# Altium footprint library PCBLIB 485.PcbLib: 6 footprints
Each footprint in its own frame and in the unit in brackets; x right, y up, seen from the top. Pads: shape width x height; smd on the part's side, far side on the other; paste and mask are expansions set on the pad; w line width, h text height; cw(c..) or ccw(c..) is an arc to the next point about the centre after c.
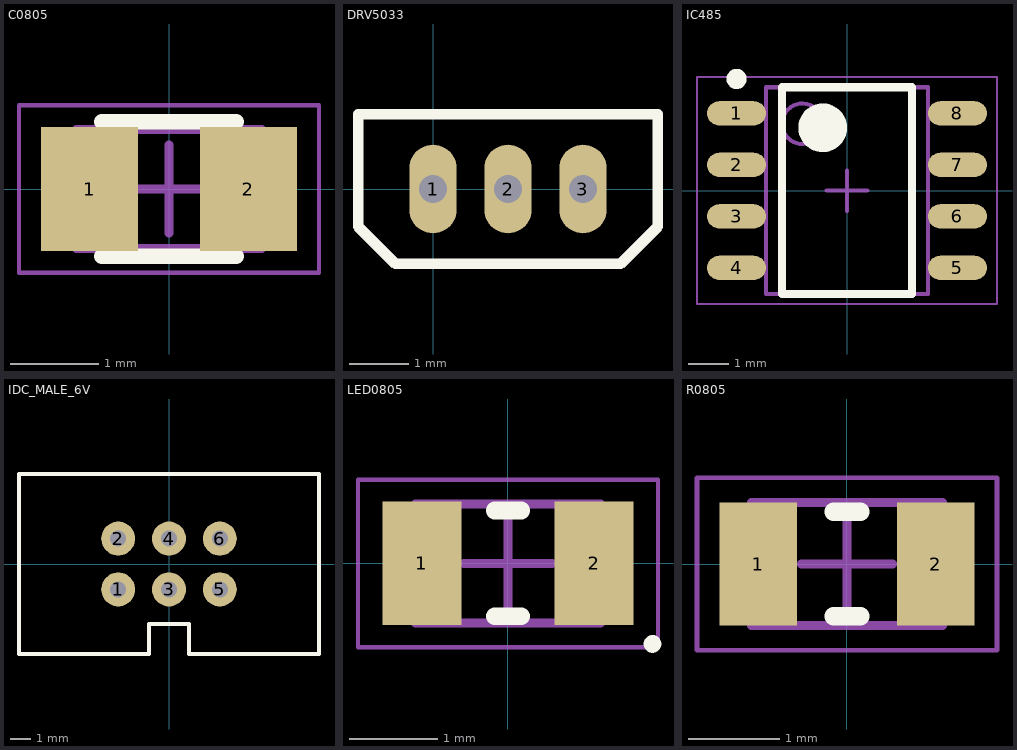
[diagram p0: the footprints below, top view; thin cyan lines are the x and y axes]

## C0805 [mm] "Chip Capacitor, 2-Leads, Body 2.00x1.25mm, IPC Medium Density"
height 0.85
pads (2):
  rect 1.1x1.4 smd: 1(-0.9,0) 2(0.9,0)
Top Overlay:
  lines w0.178: -0.762,-0.762 0.762,-0.762 ; -0.762,0.762 0.762,0.762
Mechanical 13:
  lines w0.1: -1.05,-0.675 1.05,-0.675 1.05,0.675 -1.05,0.675 -1.05,-0.675
Mechanical 15:
  lines w0.05: -1.7,-0.95 1.7,-0.95 1.7,0.95 -1.7,0.95 -1.7,-0.95
  lines w0.1: -0.5,0 0.5,0 ; 0,-0.5 0,0.5
3D body: height 0.85, standoff 0, extent 0.65,-0.675 1.05,0.675
3D body: height 0.85, standoff 0, extent -1.05,-0.675 -0.65,0.675
3D body: height 0.85, standoff 0, extent -0.65,-0.675 0.65,0.675

## DRV5033 [mm]
pads (3):
  oval 0.8x1.5 hole 0.48: 1(0,0) 2(1.27,0) 3(2.54,0)
Top Overlay:
  lines w0.178: -1.27,-0.635 -1.27,1.27 3.81,1.27 3.81,-0.635 3.175,-1.27 -0.635,-1.27 -1.27,-0.635
  text "." at -1.016,-0.738 h2
3D body "SENSOR HALL.STEP": height 2, standoff -1.05, extent -1.073,-9.996 3.613,0.254

## IC485 [mm] "SOIC, 8-Leads, Body 4.90x3.90mm, Pitch 1.27mm, IPC Medium Density"
height 1.75
pads (8):
  oval 1.45x0.6 smd: 1(-2.725,1.905) 2(-2.725,0.635) 3(-2.725,-0.635) 4(-2.725,-1.905) 5(2.725,-1.905) 6(2.725,-0.635) 7(2.725,0.635) 8(2.725,1.905)
Top Overlay:
  circle w0.6: c-0.6,1.55 r0.3
  circle w0.25: c-2.725,2.755 r0.125
  lines w0.2: -1.6,-2.55 1.6,-2.55 1.6,2.55 -1.6,2.55 -1.6,-2.55
Mechanical 13:
  circle w0.1: c-1.1,1.65 r0.5
  lines w0.1: -2,-2.55 2,-2.55 2,2.55 -2,2.55 -2,-2.55
Mechanical 15:
  lines w0.05: -3.7,-2.8 3.7,-2.8 3.7,2.8 -3.7,2.8 -3.7,-2.8
  lines w0.1: -0.5,0 0.5,0 ; 0,-0.5 0,0.5
3D body: height 1.75, standoff 0.1, extent -2,-2.55 2,2.55

## IDC_MALE_6V [mm]
pads (6):
  round 1.7 hole 0.8: 1(-2.54,-1.27) 2(-2.54,1.27) 3(0,-1.27) 4(0,1.27) 5(2.54,-1.27) 6(2.54,1.27)
Top Overlay:
  lines w0.178: -7.5,-4.5 -2.5,-4.5 -1,-4.5 -1,-3 1,-3 1,-4.5 7.5,-4.5 7.5,4.5 -7.5,4.5 -7.5,0 -7.5,-4.5
3D body "IDC MACHO 6 VIAS.STEP": height 9, standoff -3.6, extent -7.4,-4.6 7.6,4.4

## LED0805 [mm] "Chip Diode, 2-Leads, Body 2.00x1.25mm, IPC Medium Density"
height 1
pads (2):
  rect 0.9x1.4 smd: 1(-0.975,0) 2(0.975,0)
Top Overlay:
  circle w0.1: c1.637,-0.912 r0.05
  lines w0.2: -0.15,-0.6 0.15,-0.6 ; -0.15,0.6 0.15,0.6
Mechanical 13:
  lines w0.1: -1.05,-0.675 1.05,-0.675 1.05,0.675 -1.05,0.675 -1.05,-0.675
Mechanical 15:
  lines w0.05: -1.7,-0.95 1.7,-0.95 1.7,0.95 -1.7,0.95 -1.7,-0.95
  lines w0.1: -0.5,0 0.5,0 ; 0,-0.5 0,0.5
3D body: height 1, standoff 0, extent 0.64,-0.675 1.05,0.675
3D body: height 1, standoff 0, extent -1.05,-0.675 -0.64,0.675
3D body: height 1, standoff 0, extent -0.64,-0.675 0.64,0.675

## R0805 [mm] "Chip Resistor, 2-Leads, Body 2.05x1.30mm, IPC Medium Density"
height 0.35
pads (2):
  rect 0.85x1.35 smd: 1(-0.975,0) 2(0.975,0)
Top Overlay:
  lines w0.2: -0.15,-0.575 0.15,-0.575 ; -0.15,0.575 0.15,0.575
Mechanical 13:
  lines w0.1: -1.05,-0.675 -1.05,0.675 1.05,0.675 1.05,-0.675 -1.05,-0.675
Mechanical 15:
  lines w0.05: -1.65,-0.95 -1.65,0.95 1.65,0.95 1.65,-0.95 -1.65,-0.95
  lines w0.1: -0.5,0 0.5,0 ; 0,-0.5 0,0.5
3D body: height 0.35, standoff 0, extent -0.65,-0.675 0.65,0.675
3D body: height 0.35, standoff 0, extent -1.05,-0.675 -0.65,0.675
3D body: height 0.35, standoff 0, extent 0.65,-0.675 1.05,0.675